# EAGLE library part AKIZUKI_3048F1/52F (library 180118 Library by matsu)
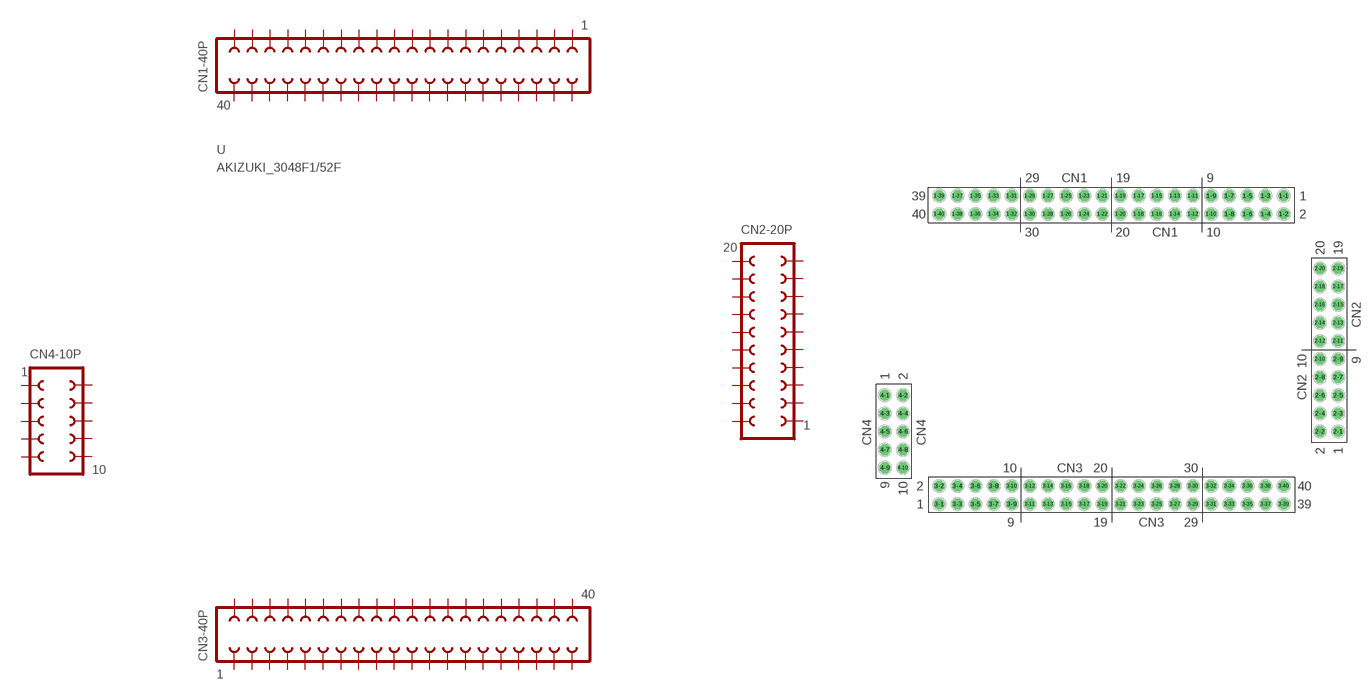
[diagram p8: symbol with the pads of AKIZUKI_3048/52F; footprint AKIZUKI_3048/52F]

Designator prefix -

## AKIZUKI_3048F1/52F  [AKIZUKI_3048/52F]
1-1  1-1
1-2  1-2
1-3  1-3
1-4  1-4
1-5  1-5
1-6  1-6
1-7  1-7
1-8  1-8
1-9  1-9
1-10  1-10
1-11  1-11
1-12  1-12
1-13  1-13
1-14  1-14
1-15  1-15
1-16  1-16
1-17  1-17
1-18  1-18
1-19  1-19
1-20  1-20
1-21  1-21
1-22  1-22
1-23  1-23
1-24  1-24
1-25  1-25
1-26  1-26
1-27  1-27
1-28  1-28
1-29  1-29
1-30  1-30
1-31  1-31
1-32  1-32
1-33  1-33
1-34  1-34
1-35  1-35
1-36  1-36
1-37  1-37
1-38  1-38
1-39  1-39
1-40  1-40
2-1  2-1
2-2  2-2
2-3  2-3
2-4  2-4
2-5  2-5
2-6  2-6
2-7  2-7
2-8  2-8
2-9  2-9
2-10  2-10
2-11  2-11
2-12  2-12
2-13  2-13
2-14  2-14
2-15  2-15
2-16  2-16
2-17  2-17
2-18  2-18
2-19  2-19
2-20  2-20
3-1  3-1
3-2  3-2
3-3  3-3
3-4  3-4
3-5  3-5
3-6  3-6
3-7  3-7
3-8  3-8
3-9  3-9
3-10  3-10
3-11  3-11
3-12  3-12
3-13  3-13
3-14  3-14
3-15  3-15
3-16  3-16
3-17  3-17
3-18  3-18
3-19  3-19
3-20  3-20
3-21  3-21
3-22  3-22
3-23  3-23
3-24  3-24
3-25  3-25
3-26  3-26
3-27  3-27
3-28  3-28
3-29  3-29
3-30  3-30
3-31  3-31
3-32  3-32
3-33  3-33
3-34  3-34
3-35  3-35
3-36  3-36
3-37  3-37
3-38  3-38
3-39  3-39
3-40  3-40
4-1  4-1
4-2  4-2
4-3  4-3
4-4  4-4
4-5  4-5
4-6  4-6
4-7  4-7
4-8  4-8
4-9  4-9
4-10  4-10

## Footprint AKIZUKI_3048/52F (pad centres in mm)
drill 1: 1-1 25.4,20.32; 2-1 33.02,-12.7; 3-1 -22.86,-22.86; 4-1 -30.48,-7.62
drill 1 octagon: 1-2 25.4,17.78; 1-3 22.86,20.32; 1-4 22.86,17.78; 1-5 20.32,20.32; 1-6 20.32,17.78; 1-7 17.78,20.32; 1-8 17.78,17.78; 1-9 15.24,20.32; 1-10 15.24,17.78; 1-11 12.7,20.32; 1-12 12.7,17.78; 1-13 10.16,20.32; 1-14 10.16,17.78; 1-15 7.62,20.32; 1-16 7.62,17.78; 1-17 5.08,20.32; 1-18 5.08,17.78; 1-19 2.54,20.32; 1-20 2.54,17.78; 1-21 0,20.32; 1-22 0,17.78; 1-23 -2.54,20.32; 1-24 -2.54,17.78; 1-25 -5.08,20.32; 1-26 -5.08,17.78; 1-27 -7.62,20.32; 1-28 -7.62,17.78; 1-29 -10.16,20.32; 1-30 -10.16,17.78; 1-31 -12.7,20.32; 1-32 -12.7,17.78; 1-33 -15.24,20.32; 1-34 -15.24,17.78; 1-35 -17.78,20.32; 1-36 -17.78,17.78; 1-37 -20.32,20.32; 1-38 -20.32,17.78; 1-39 -22.86,20.32; 1-40 -22.86,17.78; 2-2 30.48,-12.7; 2-3 33.02,-10.16; 2-4 30.48,-10.16; 2-5 33.02,-7.62; 2-6 30.48,-7.62; 2-7 33.02,-5.08; 2-8 30.48,-5.08; 2-9 33.02,-2.54; 2-10 30.48,-2.54; 2-11 33.02,0; 2-12 30.48,0; 2-13 33.02,2.54; 2-14 30.48,2.54; 2-15 33.02,5.08; 2-16 30.48,5.08; 2-17 33.02,7.62; 2-18 30.48,7.62; 2-19 33.02,10.16; 2-20 30.48,10.16; 3-2 -22.86,-20.32; 3-3 -20.32,-22.86; 3-4 -20.32,-20.32; 3-5 -17.78,-22.86; 3-6 -17.78,-20.32; 3-7 -15.24,-22.86; 3-8 -15.24,-20.32; 3-9 -12.7,-22.86; 3-10 -12.7,-20.32; 3-11 -10.16,-22.86; 3-12 -10.16,-20.32; 3-13 -7.62,-22.86; 3-14 -7.62,-20.32; 3-15 -5.08,-22.86; 3-16 -5.08,-20.32; 3-17 -2.54,-22.86; 3-18 -2.54,-20.32; 3-19 0,-22.86; 3-20 0,-20.32; 3-21 2.54,-22.86; 3-22 2.54,-20.32; 3-23 5.08,-22.86; 3-24 5.08,-20.32; 3-25 7.62,-22.86; 3-26 7.62,-20.32; 3-27 10.16,-22.86; 3-28 10.16,-20.32; 3-29 12.7,-22.86; 3-30 12.7,-20.32; 3-31 15.24,-22.86; 3-32 15.24,-20.32; 3-33 17.78,-22.86; 3-34 17.78,-20.32; 3-35 20.32,-22.86; 3-36 20.32,-20.32; 3-37 22.86,-22.86; 3-38 22.86,-20.32; 3-39 25.4,-22.86; 3-40 25.4,-20.32; 4-2 -27.94,-7.62; 4-3 -30.48,-10.16; 4-4 -27.94,-10.16; 4-5 -30.48,-12.7; 4-6 -27.94,-12.7; 4-7 -30.48,-15.24; 4-8 -27.94,-15.24; 4-9 -30.48,-17.78; 4-10 -27.94,-17.78